# Altium schematic symbol library SS34.SchLib: 1 symbol
Pins are listed as number, name and electrical type; pins without a type are passive.

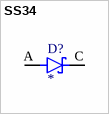
[diagram p0: symbol SS34]

## SS34
designator D?
Diode Schottky 40V 3A 2-Pin SMC T/R; MF: {'manufacturer': u'ON Semiconductor'}; MP: SS34; Price: None; Availability: Unavailable; Value: *; Package: None
footprint DIOM7959X265N
pins: A, C K